# Altium integrated library BAT54C.IntLib: 1 symbol
Pins are listed as number, name and electrical type; pins without a type are passive.

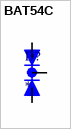
[diagram p0: symbol BAT54C]

## BAT54C
designator D?
DIODE, SCHOTTKY, DUAL; Diode Type:Schottky; Voltage, Vrrm:30V; Current, If AV:300mA; Current, Ifsm:1A; Voltage, Vf Max:0.4V; Max Junction Temperature, Tj:150Â°C; Termination Type:SMD; Case Style:SOT-23; No. of Pins:3; Current, If ;RoHS Compliant: Yes; MP: BAT54C; MF: ON Semiconductor; Check_prices: https://www.snapeda.com/parts/BAT54C/Onsemi/view-part/?ref=eda; Value: *; Availability: In Stock; Price: None; Package: SOT-23-3 ON Semiconductor; SnapEDA_Link: https://www.snapeda.com/parts/BAT54C/Onsemi/view-part/?ref=snap; Purchase-URL: https://pricing.snapeda.com/search/part/BAT54C/?ref=eda
footprint SOT23-R
pins: 1 A1, 2 A2, 3 C